# Altium schematic symbol library pqm_v2_lib_connectors.SchLib: 21 symbols
Pins are listed as number, name and electrical type; pins without a type are passive.

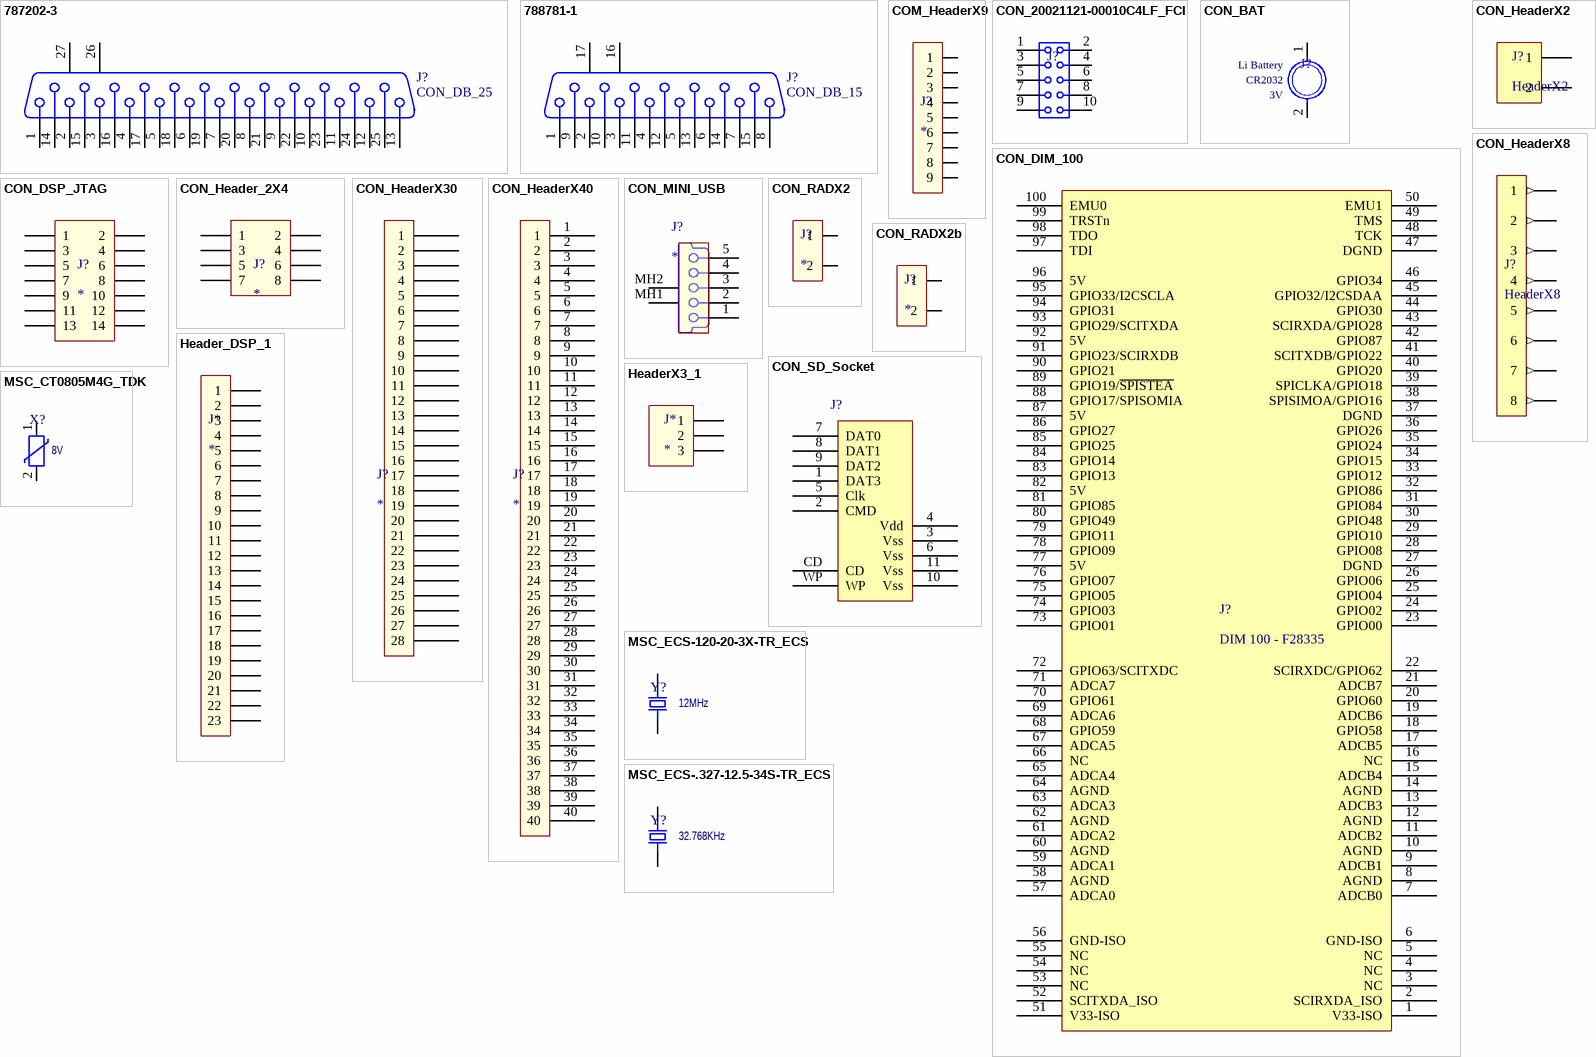
[diagram p0: symbols 787202-3 to MSC_ECS-.327-12.5-34S-TR_ECS]

## 787202-3
designator J?, comment CON_DB_25
Receptacle Assembly, Size 3, 25 Position, Right Angle, .318 Series, Amplimite; Positions: 25; MatingConnector: 4-40 Threaded Insert; PCB_Layout: Complies with manufacturer's recommendation.; DrillSize: Corresponds to nominal value.; ComponentAvailability: Obsolete; Published: 15-Jun-2001; LatestRevisionDate: 17-Jul-2002; LatestRevisionNote: Re-released for DXP Platform.; DatasheetDocument: 19-Mar-1999; PackageDocument: 19-Mar-1999; PackageReference: 787202-3; Publisher: Altium Limited; Orientation: Right Angle; Gender: Receptacle; ShellSize: 3; ComponentLink1Description: Manufacturer Link; ComponentLink1URL: http://www.tycoelectronics.com/
footprint 788755-2 (Connector; D Subminiature AMPLIMITE 2000; 25 Position; Right Angle)
pins: 1, 2, 3, 4, 5, 6, 7, 8, 9, 10, 11, 12, 13, 14, 15, 16, 17, 18, 19, 20, 21, 22, 23, 24, 25, 26 MH1, 27 MH2

## 788781-1
designator J?, comment CON_DB_15
Receptacle Assembly, 15 Position, Right Angle, 8.08mm Series, Amplimite, with Screwlocks; Positions: 15; MatingConnector: Female Screw Locks; PCB_Layout: Complies with manufacturer's recommendation.; DrillSize: Corresponds to nominal value.; Published: 15-Jun-2001; LatestRevisionDate: 17-Jul-2002; LatestRevisionNote: Re-released for DXP Platform.; DatasheetDocument: Sep-1999; PackageDocument: Sep-1999; PackageReference: 788781-1; Publisher: Altium Limited; Orientation: Right Angle; Gender: Receptacle; ShellSize: 2; ComponentLink1Description: Manufacturer Link; ComponentLink1URL: http://www.tycoelectronics.com/; ComponentLink2Description: Packaging Specification; ComponentLink2URL: http://ecommas.tycoelectronics.com/commerce/DocumentDelivery/DDEController?Action=showdoc&DocId=Customer+Drawing%7F788781%7FO%7Fpdf%7FEnglish%7FENG_CD_788781_O.pdf
footprint 788757-1 (Connector; D Subminiature AMPLIMITE 2000; 15 Position; Right Angle)
pins: 1, 2, 3, 4, 5, 6, 7, 8, 9, 10, 11, 12, 13, 14, 15, 16 MH1, 17 MH2

## COM_HeaderX9
designator J?
footprint HDRX9
pins: 1, 2, 3, 4, 5, 6, 7, 8, 9

## CON_20021121-00010C4LF_FCI
designator J?  (value not drawn)
CONN HEADER 10POS DL UNSHRD SMD; Manufacturer: FCI; Value: 20021121-00010C4LF; BOM Populate: *; Tolerance: *; Supplier Part No: *; Supplier: *; Voltage Rating: *; Current Rating: *; Digikey Part Number: 609-3695-1-ND; Manufacturer Part Number: 20021121-00010C4LF; Mouser Part Number: 649-202112100010C4LF
footprint FCI_20021121-00010C4LF (CONNECTOR, MICRO TERMINAL STRIP, 10POS, 2ROW, 1.27MM)
pins: 1, 2, 3, 4, 5, 6, 7, 8, 9, 10

## CON_BAT
designator J?  (value not drawn)
HOLDER COINCELL 2032 RETAINRCLIP; Digikey Part Number: BS-7-ND; Manufacturer Part Number: *; Mouser Part Number: 122-2420-GR
footprint CON_BAT_2032
pins: 1, 2
text: Li Battery; CR2032; 3V

## CON_DIM_100
designator J?, comment DIM 100 - F28335
Manufacturer Part Number: 5390213-1; Digikey Part Number: A121375-ND; Mouser Part Number: 571-5390213-1
footprint DIMM1.27-2V100 (Connector; DIMM II; 100 Position; Vertical)
pins: 1 V33-ISO, 2 SCIRXDA_ISO, 3 NC, 4 NC, 5 NC, 6 GND-ISO, 7 ADCB0, 8 AGND, 9 ADCB1, 10 AGND, 11 ADCB2, 12 AGND, 13 ADCB3, 14 AGND, 15 ADCB4, 16 NC, 17 ADCB5, 18 GPIO58, 19 ADCB6, 20 GPIO60, 21 ADCB7, 22 SCIRXDC/GPIO62, 23 GPIO00, 24 GPIO02, 25 GPIO04, 26 GPIO06, 27 DGND, 28 GPIO08, 29 GPIO10, 30 GPIO48, 31 GPIO84, 32 GPIO86, 33 GPIO12, 34 GPIO15, 35 GPIO24, 36 GPIO26, 37 DGND, 38 SPISIMOA/GPIO16, 39 SPICLKA/GPIO18, 40 GPIO20, 41 SCITXDB/GPIO22, 42 GPIO87, 43 SCIRXDA/GPIO28, 44 GPIO30, 45 GPIO32/I2CSDAA, 46 GPIO34, 47 DGND, 48 TCK, 49 TMS, 50 EMU1, 51 V33-ISO, 52 SCITXDA_ISO, 53 NC, 54 NC, 55 NC, 56 GND-ISO, 57 ADCA0, 58 AGND, 59 ADCA1, 60 AGND, 61 ADCA2, 62 AGND, 63 ADCA3, 64 AGND, 65 ADCA4, 66 NC, 67 ADCA5, 68 GPIO59, 69 ADCA6, 70 GPIO61, 71 ADCA7, 72 GPIO63/SCITXDC, 73 GPIO01, 74 GPIO03, 75 GPIO05, 76 GPIO07, 77 5V, 78 GPIO09, 79 GPIO11, 80 GPIO49, 81 GPIO85, 82 5V, 83 GPIO13, 84 GPIO14, 85 GPIO25, 86 GPIO27, 87 5V, 88 GPIO17/SPISOMIA, 89 GPIO19/~{SPISTEA}, 90 GPIO21, 91 GPIO23/SCIRXDB, 92 5V, 93 GPIO29/SCITXDA, 94 GPIO31, 95 GPIO33/I2CSCLA, 96 5V, 97 TDI, 98 TDO, 99 TRSTn, 100 EMU0

## CON_DSP_JTAG
designator J?
footprint HDR2X7
pins: 1, 2, 3, 4, 5, 6, 7, 8, 9, 10, 11, 12, 13, 14

## CON_Header_2X4
designator J?
footprint HDR2X4
footprint HDR2X4
pins: 1, 2, 3, 4, 5, 6, 7, 8

## CON_HeaderX2
designator J?, comment HeaderX2
footprint PHOENIX_1729128 (Terminal Block 5.08mm pitch, vertical, 2 positions pcb mounting, Phoenix Contact)
pins: 1, 2

## CON_HeaderX8
designator J?, comment HeaderX8
footprint BorneraX8
pins: 1 (out), 2 (out), 3 (out), 4 (out), 5 (out), 6 (out), 7 (out), 8 (out)

## CON_HeaderX30
designator J?
footprint HeaderX30
pins: 1, 2, 3, 4, 5, 6, 7, 8, 9, 10, 11, 12, 13, 14, 15, 16, 17, 18, 19, 20, 21, 22, 23, 24, 25, 26, 27, 28

## CON_HeaderX40
designator J?
footprint HeaderX70
pins: 1, 2, 3, 4, 5, 6, 7, 8, 9, 10, 11, 12, 13, 14, 15, 16, 17, 18, 19, 20, 21, 22, 23, 24, 25, 26, 27, 28, 29, 30, 31, 32, 33, 34, 35, 36, 37, 38, 39, 40

## CON_MINI_USB
designator J?
Manufacturer Part Number: UX60SC-MB-5S8; Digikey Part Number: H11589CT-ND; Mouser Part Number: 798-UX60SC-MB-5S8
footprint UBS MiniB
pins: 1, 2, 3, 4, 5, MH1, MH2

## CON_RADX2
designator J?
footprint RAD2 (Radial Cap, Thru-Hole; 2 Leads; 0.1 in Pin Spacing)
pins: 1, 2

## CON_RADX2b
designator J?
footprint RAD2b (Radial Cap, Thru-Hole; 2 Leads; 0.1 in Pin Spacing)
pins: 1, 2

## CON_SD_Socket
designator J?  (value not drawn)
SD Socket; Manufacturer Part Number: 10067847-001RLF; Digikey Part Number: 609-3956-1-ND; Mouser Part Number: 649-10067847-001RLF
footprint SD CARD SOCKET
pins: 1 DAT3, 2 CMD, 3 Vss, 4 Vdd, 5 Clk, 6 Vss, 7 DAT0, 8 DAT1, 9 DAT2, 10 Vss, 11 Vss, CD, WP

## Header_DSP_1
designator J*
footprint HEADER_DSP_1
pins: 1, 2, 3, 4, 5, 6, 7, 8, 9, 10, 11, 12, 13, 14, 15, 16, 17, 18, 19, 20, 21, 22, 23

## HeaderX3_1
designator J*
footprint PIN3
pins: 1, 2, 3

## MSC_CT0805M4G_TDK
designator X?, comment Voltage Rating: 8V  (hidden comment: ERZ-E10D911)
VARISTOR 8V 100A 0805; Mouser Part Number: *; Digikey Part Number: *; Manufacturer Part Number: *
footprint RESC2013X065BN (Chip Resistor, 0805, Body 2.0x1.3mm, Pads modified for 1mm spacing.)
pins: 1 T1, 2 T2

## MSC_ECS-120-20-3X-TR_ECS
designator Y?  value 12MHz  (hidden comment: *)
12 MHz ±30 ppm Cristales 20 pF 60 Ohm -10°C ~ 70°C Montaje en superficie HC49/US; Manufacturer: ECS Inc.; Manufacturer Part Number: ECS-120-20-3X-TR; BOM Populate: *; Digikey Part Number: XC1770DKR-ND; Supplier: *; Supplier Part No: *; Tolerance: *; Power Rating: *; Voltage Rating: *; Mouser Part Number: 520-120-20-3XT
footprint CSM-3X (Quartz Crystal, SM; Body 7.00 mm x 4.10 mm x 2.30 mm)
pins: 1, 2

## MSC_ECS-.327-12.5-34S-TR_ECS
designator Y?  value 32.768KHz  (hidden comment: *)
CRYSTAL 32.7680KHZ 12.5PF SMD; Manufacturer: ECS; Manufacturer Part Number: ECS-.327-12.5-34S-TR; BOM Populate: *; Digikey Part Number: XC1967CT-ND; Supplier: *; Supplier Part No: *; Tolerance: *; Power Rating: *; Voltage Rating: *; Mouser Part Number: 520-ECS32.7-12.534ST
footprint XTAL3215X090N (Crystal, Body: 3.2mmm X 1.5mm)
pins: 1, 2